# Altium schematic symbol library BQ24616RGET.Schlib: 1 symbol
Pins are listed as number, name and electrical type; pins without a type are passive.

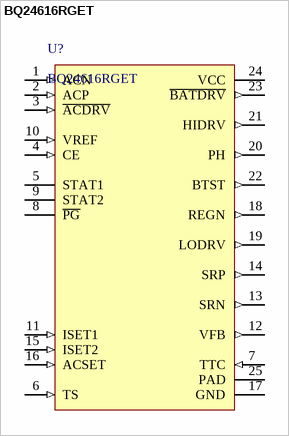
[diagram p0: symbol BQ24616RGET]

## BQ24616RGET
designator U?
Charger IC Lithium Ion/Polymer 24-VQFN (4x4)
pins: 1 ACN (in), 2 ACP (in), 3 ~{ACDRV} (in), 4 CE (in), 5 STAT1 (oc), 6 TS (in), 7 TTC (in), 8 ~{PG} (oc), 9 STAT2 (oc), 10 VREF (in), 11 ISET1 (in), 12 VFB (out), 13 SRN (out), 14 SRP (out), 15 ISET2 (in), 16 ACSET (in), 17 GND (power), 18 REGN (out), 19 LODRV (out), 20 PH (out), 21 HIDRV (out), 22 BTST (out), 23 ~{BATDRV} (out), 24 VCC (power), 25 PAD (power)